# EAGLE library part MOLEX11 (library Marvin)
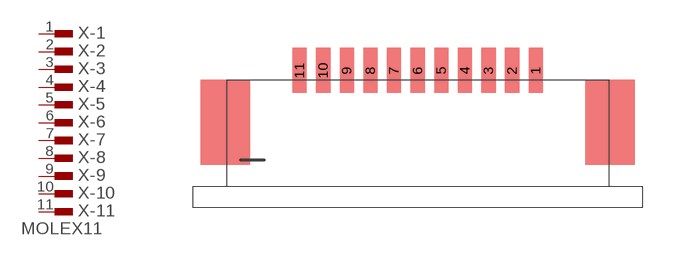
[diagram p11: symbol with the pads of MOLEX11; footprint MOLEX11]

Designator prefix X; gates -1=PINX -2=PINX -3=PINX -4=PINX -5=PINX -6=PINX -7=PINX -8=PINX -9=PINX -10=PINX -11=PIN

## MOLEX11B  [MOLEX11]
1  -1:-1
2  -2:-1
3  -3:-1
4  -4:-1
5  -5:-1
6  -6:-1
7  -7:-1
8  -8:-1
9  -9:-1
10  -10:-1
11  -11:-1

## MOLEX11T  [MOLEX11]
1  -11:-1
2  -10:-1
3  -9:-1
4  -8:-1
5  -7:-1
6  -6:-1
7  -5:-1
8  -4:-1
9  -3:-1
10  -2:-1
11  -1:-1

## Footprint MOLEX11 (pad centres in mm)
smd 0.6 x 1.9: 1 5,3; 2 4,3; 3 3,3; 4 2,3; 5 1,3; 6 0,3; 7 -1,3; 8 -2,3; 9 -3,3; 10 -4,3; 11 -5,3